# Altium footprint library WDX-DIY-PCB.PCBLIB: 138 footprints (part 5 of 9)
Each footprint in its own frame and in the unit in brackets; x right, y up, seen from the top. Pads: shape width x height; smd on the part's side, far side on the other; paste and mask are expansions set on the pad; w line width, h text height; cw(c..) or ccw(c..) is an arc to the next point about the centre after c.
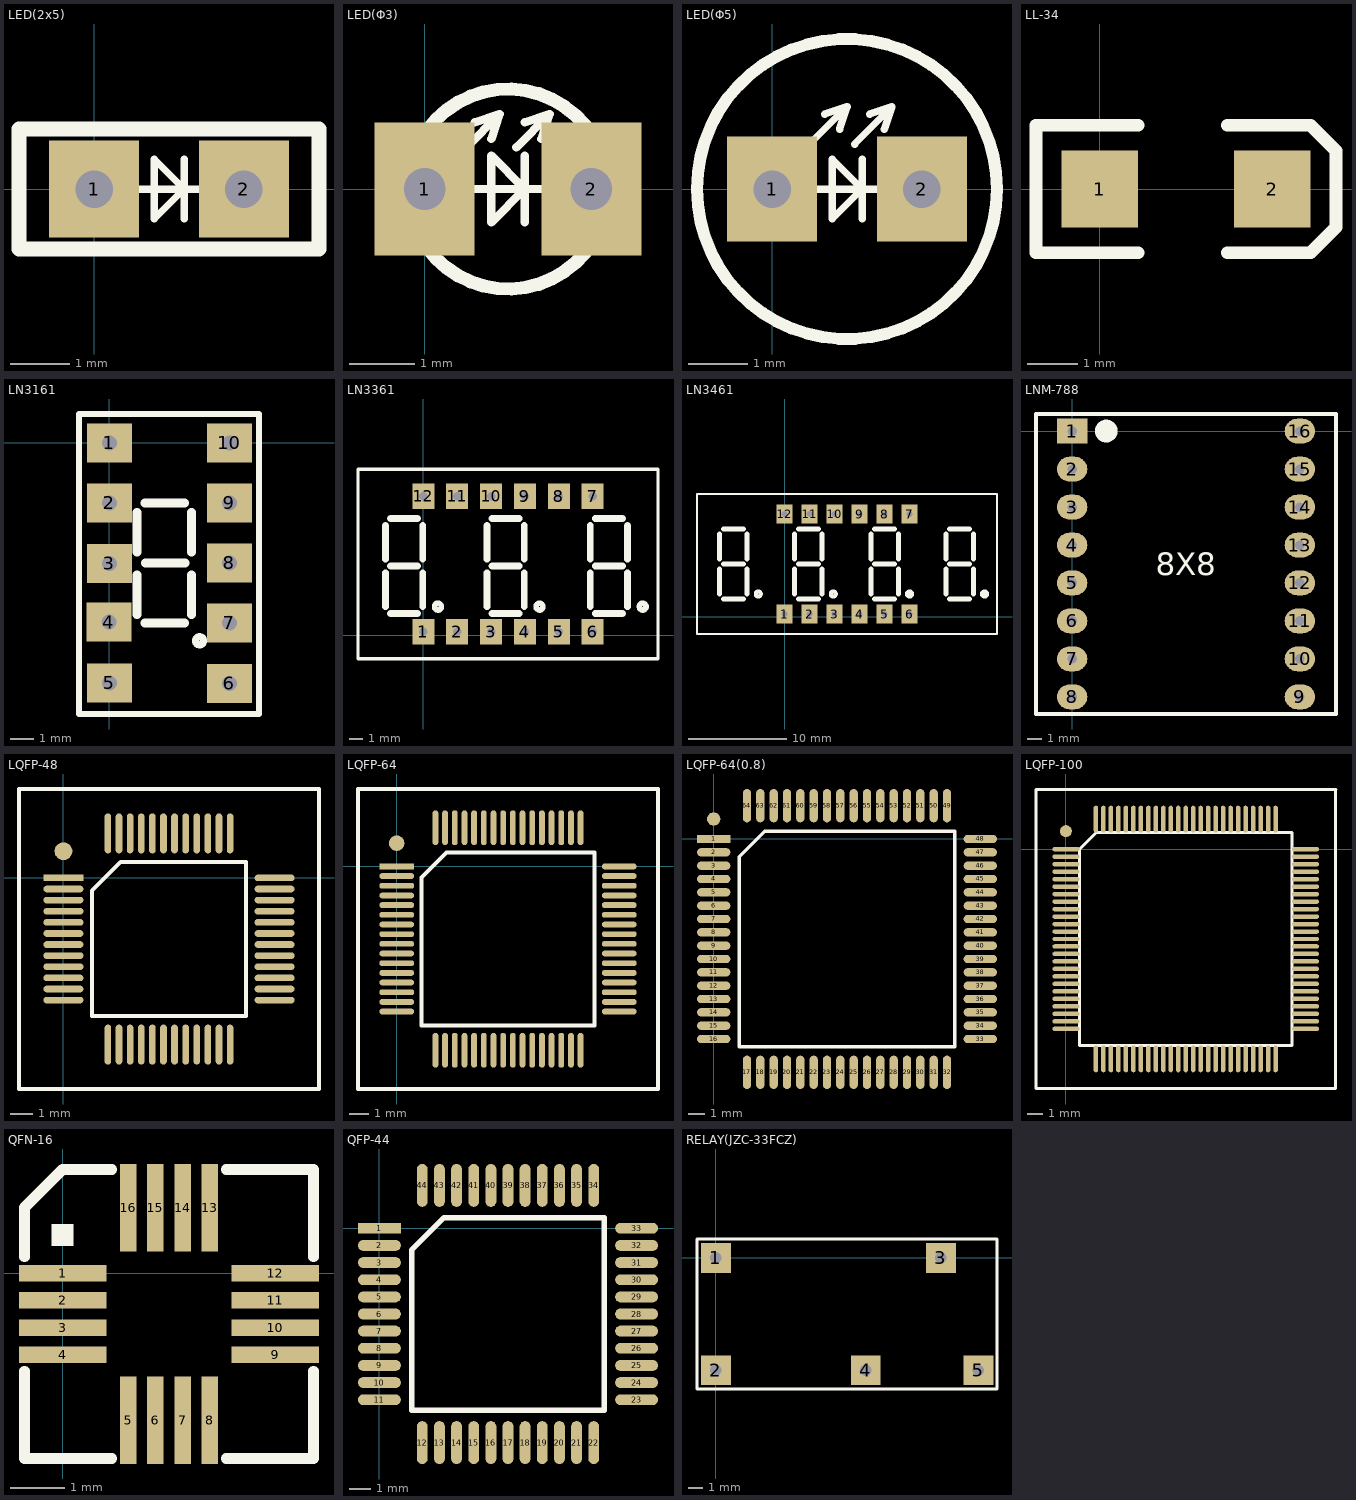
[diagram p4: the footprints below, top view; thin cyan lines are the x and y axes]

## LED(2x5) [mil]
pads (2):
  rect 60x65 hole 25: 1(0,0) 2(100,0)
TopOverlay:
  lines w5: 30,0 70,0 ; 60,-20 60,20 ; 40,-20 60,0 40,20 40,-20
  lines w10: -50,-40 -50,40 150,40 150,-40 -50,-40

## LED(Φ3) [mil]
pads (2):
  rect 60x80 hole 25: 1(0,0) 2(100,0)
TopOverlay:
  circle w8: c50,0 r60
  lines w5: 25,25 45,45 ; 30,0 70,0 ; 30,40 45,45 ; 40,30 45,45 ; 55,25 75,45 ; 60,-20 60,20 ; 60,40 75,45 ; 70,30 75,45 ; 40,-20 60,0 40,20 40,-20

## LED(Φ5) [mil]
pads (2):
  rect 60x70 hole 25: 1(0,0) 2(100,0)
TopOverlay:
  circle w8: c50,0 r100
  lines w5: 25,30 50,55 ; 30,0 70,0 ; 35,50 50,55 ; 45,40 50,55 ; 55,30 80,55 ; 60,-20 60,20 ; 65,50 80,55 ; 75,40 80,55 ; 40,-20 60,0 40,20 40,-20

## LL-34 [mil]
pads (2):
  rect 60x60 smd: 1(0,0) 2(135,0)
TopOverlay:
  lines w10: 30,-50 -50,-50 -50,50 30,50 ; 100,-50 165,-50 185,-30 185,30 165,50 100,50

## LN3161 [mil]
pads (10):
  rect 75x65 hole 25: 1(0,0) 2(0,-100) 3(0,-201) 4(-1,-299) 5(0,-400) 6(200,-401) 7(200,-300) 8(200,-200) 9(200,-100) 10(200,0)
TopOverlay:
  circle w12: c150.29,-330 r6.71
  lines w10: -50.21,-452 -50.21,48 249,48 249,-452 -50.21,-452
  lines w15: 46,-286 46,-220 ; 46,-182 46,-116 ; 59,-300 125,-300 ; 59,-100 125,-100 ; 60,-200 126,-200 ; 137,-286 137,-220 ; 137,-182 137,-116

## LN3361 [mil]
pads (12):
  rect 65x75 hole 25: 1(0,10) 2(100,10) 3(200,10) 4(300,10) 5(400,10) 6(500,10) 7(500,410) 8(400,410) 9(300,410) 10(200,410) 11(100,410) 12(0,410)
TopOverlay:
  circle w16: c648,84 r10
  circle w16: c343,84 r10
  circle w16: c43,84 r10
  lines w10: -193,-70 693,-70 693,490 -193,490 -193,-70
  lines w20: -112,84 -112,184 ; -112,224 -112,324 ; -97,64 -17,64 ; -97,204 -17,204 ; -97,344 -17,344 ; -2,84 -2,184 ; -2,224 -2,324 ; 188,84 188,184 ; 188,224 188,324 ; 203,64 283,64 ; 203,204 283,204 ; 203,344 283,344 ; 298,84 298,184 ; 298,224 298,324 ; 493,84 493,184 ; 493,224 493,324 ; 508,64 588,64 ; 508,204 588,204 ; 508,344 588,344 ; 603,84 603,184 ; 603,224 603,324

## LN3461 [mil]
pads (12):
  rect 65x75 hole 25: 1(0,10) 2(100,10) 3(200,10) 4(300,10) 5(400,10) 6(500,10) 7(500,410) 8(400,410) 9(300,410) 10(200,410) 11(100,410) 12(0,410)
TopOverlay:
  circle w16: c-105,90 r10
  circle w16: c195,90 r10
  circle w16: c500,90 r10
  circle w16: c800,90 r10
  lines w8: -350,-70 850,-70 850,490 -350,490 -350,-70
  lines w20: -260,90 -260,190 ; -260,230 -260,330 ; -245,70 -165,70 ; -245,210 -165,210 ; -245,350 -165,350 ; -150,90 -150,190 ; -150,230 -150,330 ; 40,90 40,190 ; 40,230 40,330 ; 55,70 135,70 ; 55,210 135,210 ; 55,350 135,350 ; 150,90 150,190 ; 150,230 150,330 ; 345,90 345,190 ; 345,230 345,330 ; 360,70 440,70 ; 360,210 440,210 ; 360,350 440,350 ; 455,90 455,190 ; 455,230 455,330 ; 645,90 645,190 ; 645,230 645,330 ; 660,70 740,70 ; 660,210 740,210 ; 660,350 740,350 ; 755,90 755,190 ; 755,230 755,330

## LNM-788 [mil]
pads (16):
  rect 80x65 hole 25: 1(0,0)
  oval 80x65 hole 25: 2(0,-100) 3(0,-200) 4(0,-300) 5(0,-400) 6(0,-500) 7(0,-600) 8(0,-700) 9(600,-700) 10(600,-600) 11(600,-500) 12(600,-400) 13(600,-300) 14(600,-200) 15(600,-100) 16(600,0)
TopOverlay:
  circle w30: c90,0 r15
  lines w10: -95,-745 -95,45 695,45 695,-745 -95,-745
  text "8X8" at 220,-380 h60

## LQFP-48 [mm]
pads (49):
  rect 1.8x0.3 smd: 1(0,0)
  oval 1.8x0.3 smd: 2(0,-0.5) 3(0,-1) 4(0,-1.5) 5(0,-2) 6(0,-2.5) 7(0,-3) 8(0,-3.5) 9(0,-4) 10(0,-4.5) 11(0,-5) 12(0,-5.5) 25(9.5,-5.5) 26(9.5,-5) 27(9.5,-4.5) 28(9.5,-4) 29(9.5,-3.5) 30(9.5,-3) 31(9.5,-2.5) 32(9.5,-2) 33(9.5,-1.5) 34(9.5,-1) 35(9.5,-0.5) 36(9.5,0)
  oval 0.3x1.8 smd: 13(2,-7.5) 14(2.5,-7.5) 15(3,-7.5) 16(3.5,-7.5) 17(4,-7.5) 18(4.5,-7.5) 19(5,-7.5) 20(5.5,-7.5) 21(6,-7.5) 22(6.5,-7.5) 23(7,-7.5) 24(7.5,-7.5) 37(7.5,2) 38(7,2) 39(6.5,2) 40(6,2) 41(5.5,2) 42(5,2) 43(4.5,2) 44(4,2) 45(3.5,2) 46(3,2) 47(2.5,2) 48(2,2)
  round 0.8 smd: ""(0,1.2)
TopOverlay:
  lines w0.2: -2,-9.5 -2,4 11.5,4 11.5,-9.5 -2,-9.5 ; 1.285,-6.215 8.215,-6.215 8.215,0.715 2.57,0.715 1.285,-0.57 1.285,-6.215

## LQFP-64 [mm]
pads (65):
  rect 1.8x0.3 smd: 1(0,0)
  oval 1.8x0.3 smd: 2(0,-0.5) 3(0,-1) 4(0,-1.5) 5(0,-2) 6(0,-2.5) 7(0,-3) 8(0,-3.5) 9(0,-4) 10(0,-4.5) 11(0,-5) 12(0,-5.5) 13(0,-6) 14(0,-6.5) 15(0,-7) 16(0,-7.5) 33(11.5,-7.5) 34(11.5,-7) 35(11.5,-6.5) 36(11.5,-6) 37(11.5,-5.5) 38(11.5,-5) 39(11.5,-4.5) 40(11.5,-4) 41(11.5,-3.5) 42(11.5,-3) 43(11.5,-2.5) 44(11.5,-2) 45(11.5,-1.5) 46(11.5,-1) 47(11.5,-0.5) 48(11.5,0)
  oval 0.3x1.8 smd: 17(2,-9.5) 18(2.5,-9.5) 19(3,-9.5) 20(3.5,-9.5) 21(4,-9.5) 22(4.5,-9.5) 23(5,-9.5) 24(5.5,-9.5) 25(6,-9.5) 26(6.5,-9.5) 27(7,-9.5) 28(7.5,-9.5) 29(8,-9.5) 30(8.5,-9.5) 31(9,-9.5) 32(9.5,-9.5) 49(9.5,2) 50(9,2) 51(8.5,2) 52(8,2) 53(7.5,2) 54(7,2) 55(6.5,2) 56(6,2) 57(5.5,2) 58(5,2) 59(4.5,2) 60(4,2) 61(3.5,2) 62(3,2) 63(2.5,2) 64(2,2)
  round 0.8 smd: ""(0,1.2)
TopOverlay:
  lines w0.2: -2,-11.5 13.5,-11.5 13.5,4 -2,4 -2,-11.5 ; 1.285,-8.215 1.285,-0.57 2.57,0.715 10.215,0.715 10.215,-8.215 1.285,-8.215

## LQFP-64(0.8) [mm]
pads (65):
  rect 2x0.5 smd: 1(0,0)
  oval 2x0.5 smd: 2(0,-0.8) 3(0,-1.6) 4(0,-2.4) 5(0,-3.2) 6(0,-4) 7(0,-4.8) 8(0,-5.6) 9(0,-6.4) 10(0,-7.2) 11(0,-8) 12(0,-8.8) 13(0,-9.6) 14(0,-10.4) 15(0,-11.2) 16(0,-12) 33(16,-12) 34(16,-11.2) 35(16,-10.4) 36(16,-9.6) 37(16,-8.8) 38(16,-8) 39(16,-7.2) 40(16,-6.4) 41(16,-5.6) 42(16,-4.8) 43(16,-4) 44(16,-3.2) 45(16,-2.4) 46(16,-1.6) 47(16,-0.8) 48(16,0)
  oval 0.5x2 smd: 17(2,-14) 18(2.8,-14) 19(3.6,-14) 20(4.4,-14) 21(5.2,-14) 22(6,-14) 23(6.8,-14) 24(7.6,-14) 25(8.4,-14) 26(9.2,-14) 27(10,-14) 28(10.8,-14) 29(11.6,-14) 30(12.4,-14) 31(13.2,-14) 32(14,-14) 49(14,2) 50(13.2,2) 51(12.4,2) 52(11.6,2) 53(10.8,2) 54(10,2) 55(9.2,2) 56(8.4,2) 57(7.6,2) 58(6.8,2) 59(6,2) 60(5.2,2) 61(4.4,2) 62(3.6,2) 63(2.8,2) 64(2,2)
  round 0.8 smd: ""(0,1.2)
TopOverlay:
  lines w0.2: 1.535,-12.465 14.465,-12.465 14.465,0.465 3.07,0.465 1.535,-1.07 1.535,-12.465

## LQFP-100 [mm]
pads (101):
  oval 1.8x0.3 smd: 1(0,0) 2(0,-0.5) 3(0,-1) 4(0,-1.5) 5(0,-2) 6(0,-2.5) 7(0,-3) 8(0,-3.5) 9(0,-4) 10(0,-4.5) 11(0,-5) 12(0,-5.5) 13(0,-6) 14(0,-6.5) 15(0,-7) 16(0,-7.5) 17(0,-8) 18(0,-8.5) 19(0,-9) 20(0,-9.5) 21(0,-10) 22(0,-10.5) 23(0,-11) 24(0,-11.5) 25(0,-12) 51(16,-12) 52(16,-11.5) 53(16,-11) 54(16,-10.5) 55(16,-10) 56(16,-9.5) 57(16,-9) 58(16,-8.5) 59(16,-8) 60(16,-7.5) 61(16,-7) 62(16,-6.5) 63(16,-6) 64(16,-5.5) 65(16,-5) 66(16,-4.5) 67(16,-4) 68(16,-3.5) 69(16,-3) 70(16,-2.5) 71(16,-2) 72(16,-1.5) 73(16,-1) 74(16,-0.5) 75(16,0)
  oval 0.3x1.8 smd: 26(2,-14) 27(2.5,-14) 28(3,-14) 29(3.5,-14) 30(4,-14) 31(4.5,-14) 32(5,-14) 33(5.5,-14) 34(6,-14) 35(6.5,-14) 36(7,-14) 37(7.5,-14) 38(8,-14) 39(8.5,-14) 40(9,-14) 41(9.5,-14) 42(10,-14) 43(10.5,-14) 44(11,-14) 45(11.5,-14) 46(12,-14) 47(12.5,-14) 48(13,-14) 49(13.5,-14) 50(14,-14) 76(14,2) 77(13.5,2) 78(13,2) 79(12.5,2) 80(12,2) 81(11.5,2) 82(11,2) 83(10.5,2) 84(10,2) 85(9.5,2) 86(9,2) 87(8.5,2) 88(8,2) 89(7.5,2) 90(7,2) 91(6.5,2) 92(6,2) 93(5.5,2) 94(5,2) 95(4.5,2) 96(4,2) 97(3.5,2) 98(3,2) 99(2.5,2) 100(2,2)
  round 0.8 smd: ""(0,1.2)
TopOverlay:
  lines w0.2: 18,4 18,-16 -2,-16 -2,4 18.034,4 ; 0.9,-13.1 0.9,0 2,1.1 15.1,1.1 15.1,-13.1 0.9,-13.1

## PCBComponent_1 [mil]

## QFN-16 [mm]
pads (16):
  rect 1.6x0.3 smd: 1(0,0) 2(0,-0.5) 3(0,-1) 4(0,-1.5) 9(3.9,-1.5) 10(3.9,-1) 11(3.9,-0.5) 12(3.9,0)
  rect 0.3x1.6 smd: 5(1.2,-2.7) 6(1.7,-2.7) 7(2.2,-2.7) 8(2.7,-2.7) 13(2.7,1.2) 14(2.2,1.2) 15(1.7,1.2) 16(1.2,1.2)
TopOverlay:
  rectangle: -0.2,0.5 0.2,0.9
  lines w0.2: -0.7,-1.8 -0.7,-3.4 0.9,-3.4 ; -0.7,0.3 -0.7,1.2 0,1.9 0.9,1.9 ; 3,-3.4 4.6,-3.4 4.6,-1.8 ; 3,1.9 4.6,1.9 4.6,0.3

## QFP-44 [mm]
pads (44):
  rect 2x0.51 smd: 1(0,0)
  oval 2x0.51 smd: 2(0,-0.8) 3(0,-1.6) 4(0,-2.4) 5(0,-3.2) 6(0,-4) 7(0,-4.8) 8(0,-5.6) 9(0,-6.4) 10(0,-7.2) 11(0,-8) 23(12,-8) 24(12,-7.2) 25(12,-6.4) 26(12,-5.6) 27(12,-4.8) 28(12,-4) 29(12,-3.2) 30(12,-2.4) 31(12,-1.6) 32(12,-0.8) 33(12,0)
  oval 0.51x2 smd: 12(2,-10) 13(2.8,-10) 14(3.6,-10) 15(4.4,-10) 16(5.2,-10) 17(6,-10) 18(6.8,-10) 19(7.6,-10) 20(8.4,-10) 21(9.2,-10) 22(10,-10) 34(10,2) 35(9.2,2) 36(8.4,2) 37(7.6,2) 38(6.8,2) 39(6,2) 40(5.2,2) 41(4.4,2) 42(3.6,2) 43(2.8,2) 44(2,2)
TopOverlay:
  lines w0.254: 1.508,-8.492 1.508,-1.016 3.016,0.492 10.492,0.492 10.492,-8.492 1.508,-8.492

## RELAY(JZC-33FCZ) [mil]
pads (5):
  rect 80x80 hole 30: 1(0,0) 2(0,-300) 3(600,0) 4(400,-300) 5(700,-300)
TopOverlay:
  lines w8: -50,-350 -50,50 750,50 750,-350 -50,-350